# Altium schematic symbol library conics_sch_alt.SchLib: 49 symbols
Pins are listed as number, name and electrical type; pins without a type are passive.

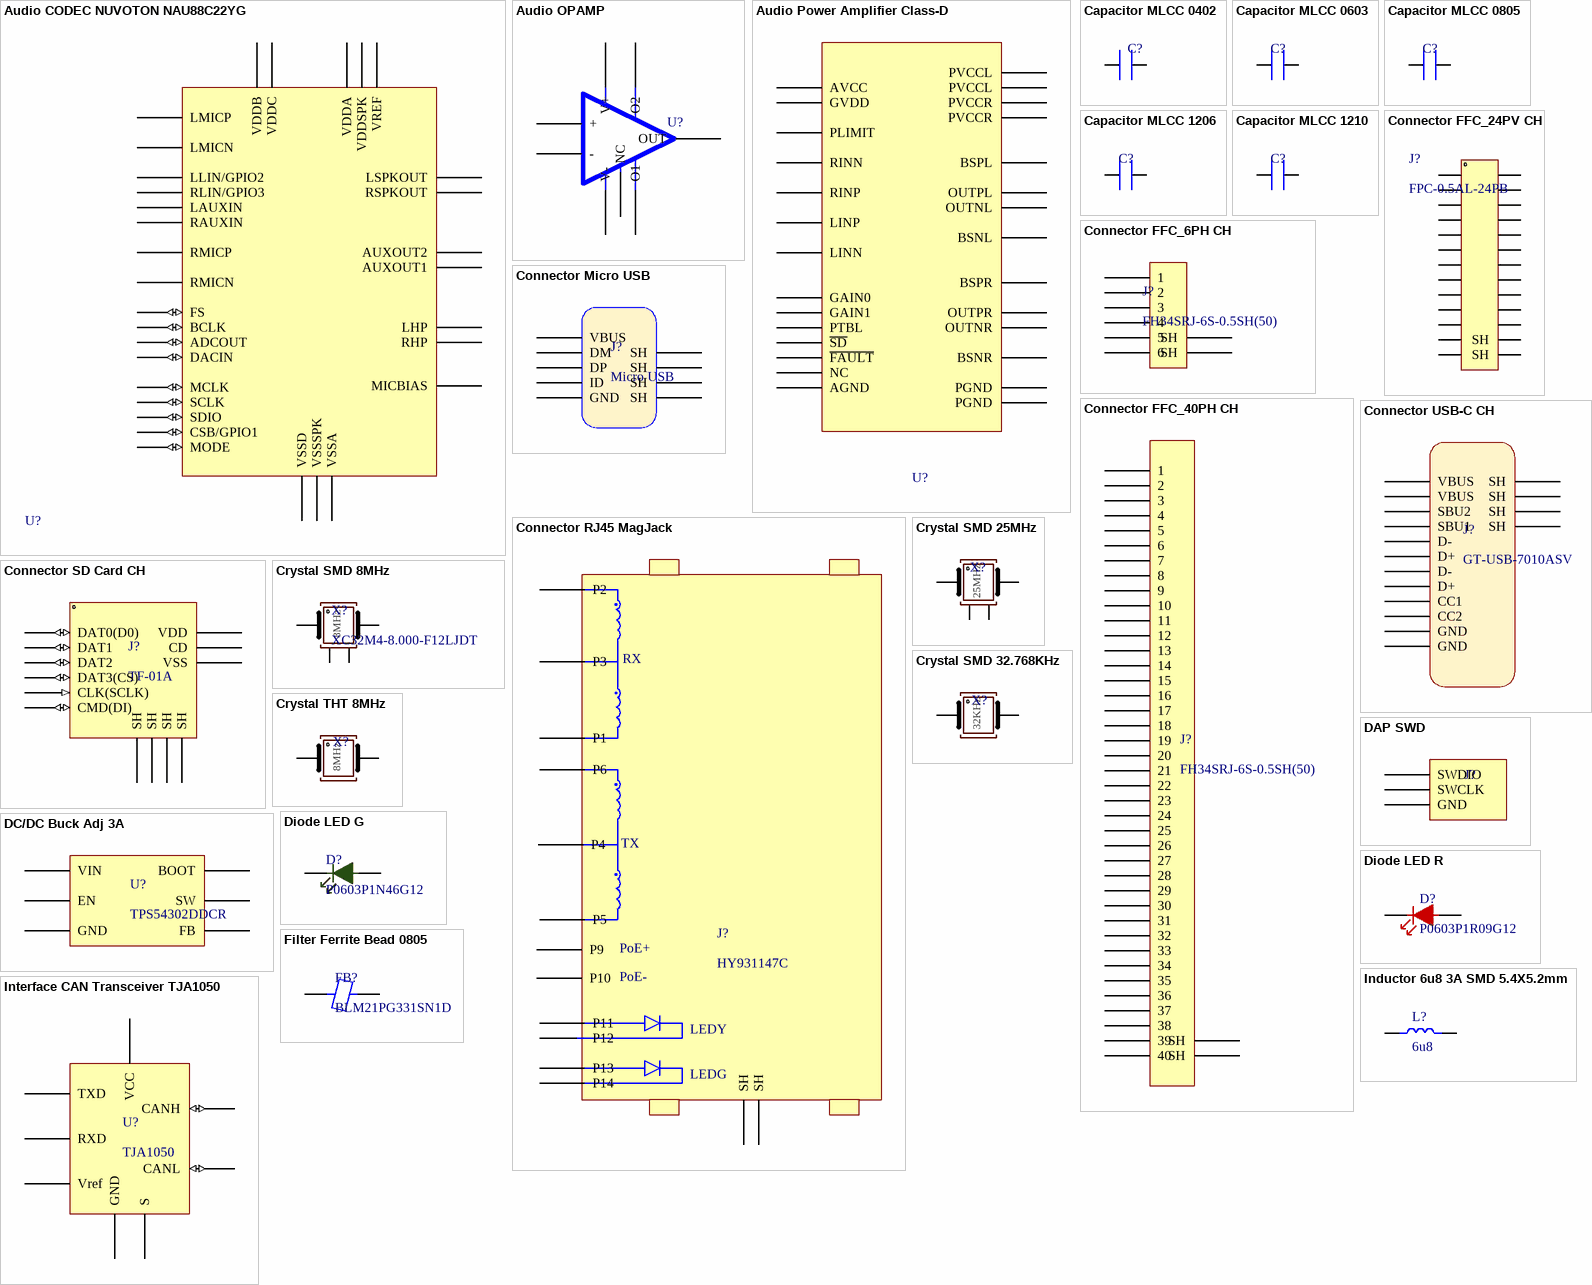
[diagram p0: symbols Audio CODEC NUVOTON NAU88C22YG to Interface CAN Transceiver TJA1050]

## Audio CODEC NUVOTON NAU88C22YG
designator U?  (value not drawn)
24-bit Stereo Audio Codec with Speaker Driver; Manufacturer 1: NUVOTON; Manufacturer Part Number 1: NAU88C22YG; Designator: U?; Quantity: *; Distributor: LCSC; LCSC Part Number: C914209; Package: QFN-32-EP(5x5); ComponentLink1Description: Product Link; ComponentLink1URL: https://www.lcsc.com/product-detail/C914209.html; ComponentLink2Description: Datasheet; ComponentLink2URL: https://www.lcsc.com/datasheet/C914209.pdf
footprint NAU88C22YG_QFN32_5x5 - duplicate
pins: 1 LMICP, 2 LMICN, 3 LLIN/GPIO2, 4 RMICP, 5 RMICN, 6 RLIN/GPIO3, 7 FS (io), 8 BCLK (io), 9 ADCOUT (io), 10 DACIN (io), 11 MCLK (io), 12 VSSD, 13 VDDC, 14 VDDB, 15 CSB/GPIO1 (io), 16 SCLK (io), 17 SDIO (io), 18 MODE (io), 19 LAUXIN, 20 RAUXIN, 21 AUXOUT1, 22 AUXOUT2, 23 RSPKOUT, 24 VSSSPK, 25 LSPKOUT, 26 VDDSPK, 27 VREF, 28 VSSA, 29 RHP, 30 LHP, 31 VDDA, 32 MICBIAS

## Audio OPAMP
designator U?  (value not drawn)
60uV 1.8nA 0.3V/us 120dB 400kHz 1 SOIC-8 Amplifiers RoHS; Manufacturer 1: TI; Manufacturer Part Number 1: OP07CDR; Designator: U?; Quantity: *; Distributor: LCSC; LCSC Part Number: C7433; Package: SOIC-8; ComponentLink1Description: Datasheet; ComponentLink1URL: https://www.lcsc.com/datasheet/C7433.pdf; ComponentLink2Description: Product Link; ComponentLink2URL: https://www.lcsc.com/product-detail/C7433.html
footprint OP07_SOIC
pins: 1 O1, 2 -, 3 +, 4 V-, 5 NC, 6 OUT, 7 V+, 8 O2

## Audio Power Amplifier Class-D
designator U?  (value not drawn)
2-Channel Class D HTSSOP-28-EP Audio Amplifiers RoHS; Manufacturer 1: TI; Manufacturer Part Number 1: TPA3110D2PWPR; Designator: U?; Quantity: *; Distributor: LCSC; LCSC Part Number: C30132; Package: HTSSOP-28-EP; ComponentLink1Description: Datasheet; ComponentLink1URL: https://www.lcsc.com/datasheet/C30132.pdf; ComponentLink2Description: Product Link; ComponentLink2URL: https://www.lcsc.com/product-detail/C30132.html
footprint TPA3110D2PWPR
pins: 1 ~{SD}, 2 ~{FAULT}, 3 LINP, 4 LINN, 5 GAIN0, 6 GAIN1, 7 AVCC, 8 AGND, 9 GVDD, 10 PLIMIT, 11 RINN, 12 RINP, 13 NC, 14 PTBL, 15 PVCCR, 16 PVCCR, 17 BSPR, 18 OUTPR, 19 PGND, 20 OUTNR, 21 BSNR, 22 BSNL, 23 OUTNL, 24 PGND, 25 OUTPL, 26 BSPL, 27 PVCCL, 28 PVCCL

## Capacitor MLCC 0402
designator C?  (value not drawn)
MURATA; Designator: C?; Manufacturer 1: mURATA; Manufacturer Part Number 1: *; Quantity: *; Distributor: LCSC; LCSC Part Number: *; Package: SMD,0402
footprint CAP_MLCC_MURATA_0402
pins: 1, 2

## Capacitor MLCC 0603
designator C?  (value not drawn)
MURATA; Designator: C?; Manufacturer 1: mURATA; Manufacturer Part Number 1: *; Quantity: *; Distributor: LCSC; LCSC Part Number: *; Package: SMD,0603
footprint CAP_MLCC_MURATA_0603
pins: 1, 2

## Capacitor MLCC 0805
designator C?  (value not drawn)
MURATA; Designator: C?; Manufacturer 1: mURATA; Manufacturer Part Number 1: *; Quantity: *; Distributor: LCSC; LCSC Part Number: *; Package: SMD, 0805
footprint CAP_MLCC_MURATA_0805
pins: 1, 2

## Capacitor MLCC 1206
designator C?  (value not drawn)
MURATA; Designator: C?; Manufacturer 1: mURATA; Manufacturer Part Number 1: *; Quantity: *; Distributor: LCSC; LCSC Part Number: *; Package: SMD, 1206
footprint CAP_MLCC_MURATA_1206
pins: 1, 2

## Capacitor MLCC 1210
designator C?  (value not drawn)
MURATA; Designator: C?; Manufacturer 1: mURATA; Manufacturer Part Number 1: *; Quantity: *; Distributor: LCSC; LCSC Part Number: *; Package: SMD, 1210
footprint CAP_MLCC_MURATA_1210
pins: 1, 2

## Connector FFC_6PH CH
designator J?, comment FH34SRJ-6S-0.5SH(50)
-55℃~+105℃ 6P 0.5mm Double-Sided Contacts, Top and Bottom Entry Surface Mount, Right Angle SMD,P=0.5mm,Surface Mount,Right Angle FFC, FPC (Flat Flexible) Connector Assemblies RoHS; Manufacturer 1: HRS; Designator: J?; Manufacturer Part Number 1: FH34SRJ-6S-0.5SH(50); Quantity: *; ComponentLink1Description: Product Link; ComponentLink1URL: https://www.lcsc.com/product-detail/C224194.html; ComponentLink2Description: Datasheet; ComponentLink2URL: https://www.lcsc.com/datasheet/C224194.pdf; Distributor: LCSC; LCSC Part Number: C224194; Package: SMD,P=0.5mm,Surface Mount,Right Angle
footprint CONN_CH_SMD_FPS_6P
pins: 1, 2, 3, 4, 5, 6, 7 SH, 8 SH

## Connector FFC_24PV CH
designator J?, comment FPC-0.5AL-24PB
Slide Lock -25℃~+85℃ 24P 0.5mm 500mA 50V Single-side Contact/Vertical Surface Mount,Vertical SMD,P=0.5mm FFC, FPC (Flat Flexible) Connector Assemblies ROHS; Manufacturer 1: XUNPU; Designator: J?; Manufacturer Part Number 1: FPC-0.5AL-24PB; Quantity: *; ComponentLink1Description: Datasheet; ComponentLink1URL: https://www.lcsc.com/datasheet/C3446051.pdf; ComponentLink2Description: Product Link; ComponentLink2URL: https://www.lcsc.com/product-detail/C3446051.html; Distributor: LCSC; LCSC Part Number: C3446051; Package: SMD,P=0.5mm
footprint CONN_CH_SMD_FPC_24P_0.5 (SMD FPC Connector 24 Pins)
pins: 1, 2, 3, 4, 5, 6, 7, 8, 9, 10, 11, 12, 13, 14, 15, 16, 17, 18, 19, 20, 21, 22, 23, 24, 25 SH, 26 SH

## Connector FFC_40PH CH
designator J?, comment FH34SRJ-6S-0.5SH(50)
-55℃~+105℃ 6P 0.5mm Double-Sided Contacts, Top and Bottom Entry Surface Mount, Right Angle SMD,P=0.5mm,Surface Mount,Right Angle FFC, FPC (Flat Flexible) Connector Assemblies RoHS; Manufacturer 1: HRS; Designator: J?; Manufacturer Part Number 1: FH34SRJ-6S-0.5SH(50); Quantity: *; ComponentLink1Description: Product Link; ComponentLink1URL: https://www.lcsc.com/product-detail/C224194.html; ComponentLink2Description: Datasheet; ComponentLink2URL: https://item.szlcsc.com/datasheet/AFC01-S40FCA-00/253933.html?lcsc_vid=QlAKU11QQVEKAwJVFVlZAVZfFgcNAwFWR1JaBVRSFAAxVlNQRVZYU1xXRVhXVjsOAxUeFF5JWBEcCEoDFhIXAgAHWQIBCks%3D; Distributor: LCSC; LCSC Part Number: C224194; Package: SMD,P=0.5mm,Surface Mount,Right Angle
footprint CONN_CH_SMD_FPC_40P
pins: 1, 2, 3, 4, 5, 6, 7, 8, 9, 10, 11, 12, 13, 14, 15, 16, 17, 18, 19, 20, 21, 22, 23, 24, 25, 26, 27, 28, 29, 30, 31, 32, 33, 34, 35, 36, 37, 38, 39, 40, 41 SH, 42 SH

## Connector Micro USB
designator J?, comment Micro USB
USB-Micro B Receptacle Connector 5 Position Surface Mount; Manufacturer 1: Jing Extension of the Electronic Co.; Manuacturer Part Number 1: 920-E52A2021S10100; Designator: J?; Quantity: *; ComponentLink1Description: Datasheet; ComponentLink1URL: https://www.lcsc.com/datasheet/C10418.pdf; ComponentLink2Description: Product Link; ComponentLink2URL: https://www.lcsc.com/product-detail/C10418.html; Distributor: LCSC; LCSC Part Number: C10418; Package: SMD
footprint CONN_MICRO_USB
pins: 1 VBUS, 2 DM, 3 DP, 4 ID, 5 GND, SH0 SH, SH1 SH, SH2 SH, SH3 SH

## Connector RJ45 MagJack
designator J?, comment HY931147C
1 With LED Through Hole Modular/Ethernet Connector Jacks With Magnetics RoHS; Manufacturer 1: HANRUN(Zhongshan HanRun Elec); Designator: J?; Manufacturer Part Number 1: HY931147C; Quantity: *; ComponentLink1Description: Product Link; ComponentLink1URL: https://www.lcsc.com/product-detail/C91754.html; ComponentLink2Description: Datasheet; ComponentLink2URL: https://item.szlcsc.com/datasheet/HY931147C/92943.html; Distributor: LCSC; LCSC Part Number: C91754; Package: THT
footprint CONN_ETH_RJ45
pins: 1 P1, 2 P2, 3 P3, 4 P4, 5 P5, 6 P6, 9 P9, 10 P10, 11 P11, 12 P12, 13 P13, 14 P14, 15 SH, 16 SH
text: RX; TX; PoE+; PoE-; LEDY; LEDG

## Connector SD Card CH
designator J?, comment TF-01A
Push-Push 1.85mm Connector and Ejector MicroSD Card (TF Card) SMD PC Card Sockets ROHS; Manufacturer 1: Korean Hroparts Elec; Designator: J?; Manufacturer Part Number 1: TF-01A; Quantity: *; ComponentLink1Description: Datasheet; ComponentLink1URL: https://www.lcsc.com/datasheet/C91145.pdf; ComponentLink2Description: Product Link; ComponentLink2URL: https://www.lcsc.com/product-detail/C91145.html; Distributor: LCSC; LCSC Part Number: C91145; Package: SMD
footprint CONN_CH_SMD_SD_CARD
pins: 1 DAT2 (io), 2 DAT3(CS) (io), 3 CMD(DI) (io), 4 VDD, 5 CLK(SCLK) (in), 6 VSS, 7 DAT0(D0) (io), 8 DAT1 (io), 9 CD, 10 SH, 11 SH, 12 SH, 13 SH

## Connector USB-C CH
designator J?, comment GT-USB-7010ASV
USB 2.0 1 16P -40℃~+85℃ Type-C SMD USB, DVI, HDMI Connector Assemblies ROHS; Manufacturer 1: G-Switch; Designator: J?; Manufacturer Part Number 1: GT-USB-7010ASV; Quantity: *; ComponentLink1Description: Datasheet; ComponentLink1URL: https://atta.szlcsc.com/upload/public/pdf/source/20230327/DF227B64686AC8FA0AD1775797F2C3F1.pdf; ComponentLink2Description: Product Link; ComponentLink2URL: https://www.lcsc.com/product-detail/C2988369.html; Distributor: LCSC; LCSC Part Number: C2988369; Package: SMD
footprint CONN_CH_USB_SMD_USB
pins: 1 VBUS, 2 VBUS, 3 SBU2, 4 CC1, 5 D-, 6 D+, 7 D-, 8 D+, 9 SBU1, 10 CC2, 11 GND, 12 GND, 13 SH, 14 SH, 15 SH, 16 SH

## Crystal SMD 8MHz
designator X?, comment XC32M4-8.000-F12LJDT
Crystal Oscillator 12pF SMD3225-4P Crystals RoHS; Manufacturer 1: HCI; Designator: X?; Manufacturer Part Number 1: XC32M4-8.000-F12LJDT; Quantity: *; ComponentLink1Description: Datasheet; ComponentLink1URL: https://www.lcsc.com/datasheet/C2842191.pdf; ComponentLink2Description: Product Link; ComponentLink2URL: https://www.lcsc.com/product-detail/C2842191.html; Distributor: LCSC; LCSC Part Number: C2842191; Package: SMD3225-4P
footprint XTAL_SMD_HCL
pins: 1, 2, 3, 4
text: 8MHz

## Crystal SMD 25MHz
designator X?, comment X322525MOB4SI  (value not drawn)
Crystal Oscillator 12pF SMD3225-4P Crystals ROHS; Manufacturer 1: YXC Crystal Oscillators; Designator: X?; Manufacturer Part Number 1: X322525MOB4SI; Quantity: *; ComponentLink1Description: Datasheet; ComponentLink1URL: https://item.szlcsc.com/datasheet/X322525MOB4SI/9526.html?lcsc_vid=T1EMVlBfE1BXVVADFQQNUlMFT1RXUAZeFlhfBlAAQVExVlNQR1lZUlNfQVJeUTsOAxUeFF5JWBEcCEoDFhIXAgAHWQIBCks%3D; ComponentLink2Description: Product Link; ComponentLink2URL: https://www.lcsc.com/product-detail/C9006.html; Distributor: LCSC; LCSC Part Number: C9006; Package: SMD3225-4P
footprint XTAL_SMD_YXC
pins: 1, 2, 3, 4
text: 25MHz

## Crystal SMD 32.768KHz
designator X?  (value not drawn)
Crystal 32.768kHz ±20ppm 12.5pF 35kΩ MC-306; Manufacturer 1: EPSON; Manufacturer Part Number 1: Q13MC30610003; Designator: X?; Quantity: *; ComponentLink1Description: Datasheet; ComponentLink1URL: https://www.lcsc.com/datasheet/C16320.pdf; ComponentLink2Description: Product Link; ComponentLink2URL: https://www.lcsc.com/product-detail/C16320.html; Distributor: LCSC; LCSC Part Number: C16320; Package: MC-306
footprint XTAL-32_768K
pins: 1, 4
text: 32KHz

## Crystal THT 8MHz
designator X?  (value not drawn)
Crystal 8MHz ±20ppm 20pF HC-49S; Manufacturer 1: YXC Crystal Oscillators; Manufacturer Part Number 1: X49SD8MSD2SC; Designator: X?; Quantity: *; ComponentLink1Description: Datasheet; ComponentLink1URL: https://www.lcsc.com/datasheet/C21263.pdf; ComponentLink2Description: Product Link; ComponentLink2URL: https://www.lcsc.com/product-detail/C21263.html; Distributor: LCSC; LCSC Part Number: C21263; Package: HC-49S
footprint XTAL_THT
pins: 1, 2
text: 8MHz

## DAP SWD
designator J?  (value not drawn)
Connector Header 3 position 1mm Pitch 1A Surface Mount,Vertical -25℃~+85℃; Manufacturer 1: JST; Manufacturer Part Number 1: BM03B-SRSS-TB(LF)(SN); Designator: J?; Quantity: *; ComponentLink1Description: Datasheet; ComponentLink1URL: https://www.lcsc.com/datasheet/C160389.pdf; ComponentLink2Description: Product Link; ComponentLink2URL: https://www.lcsc.com/product-detail/C160389.html; Distributor: LCSC; LCSC Part Number: C160389; Package: SMD,P=1mm
footprint CONN_JST_3P
pins: 1 SWDIO, 2 SWCLK, 3 GND

## DC/DC Buck Adj 3A
designator U?, comment TPS54302DDCR
400kHz Buck Adjustable 1 TSOT-23-6 Voltage Regulators - DC DC Switching Regulators RoHS; Manufacturer 1: TI; Designator: U?; Manufacturer Part Number 1: TPS54302DDCR; Quantity: *; ComponentLink1Description: Datasheet; ComponentLink1URL: https://www.lcsc.com/datasheet/C311983.pdf; ComponentLink2Description: Product Link; ComponentLink2URL: https://www.lcsc.com/product-detail/C311983.html; Distributor: LCSC; LCSC Part Number: C311983; Package: TSOT-23-6
footprint SOT95P280X110-6N (SOT23, 6-Leads, Body 2.90x2.80mm, Pitch 0.95mm, IPC Medium Density)
pins: 1 GND, 2 SW, 3 VIN, 4 FB, 5 EN, 6 BOOT

## Diode LED G
designator D?, comment P0603P1N46G12
1200mcd 518nm~524nm Green 3V 0603 LED Indication - Discrete ROHS; Manufacturer 1: Silverlight; Designator: D?; Manufacturer Part Number 1: P0603P1N46G12; Quantity: *; ComponentLink1Description: Datasheet; ComponentLink1URL: https://www.lcsc.com/datasheet/C5123548.pdf; ComponentLink2Description: Product Link; ComponentLink2URL: https://www.lcsc.com/product-detail/C5123548.html; Distributor: LCSC; LCSC Part Number: C5123548; Package: SMD, 0603
footprint LED_0603
pins: 1, 2

## Diode LED R
designator D?, comment P0603P1R09G12
20mA 350mcd 621nm Red 2V 0603 LED Indication - Discrete ROHS; Manufacturer 1: Silverlight; Designator: D?; Manufacturer Part Number 1: P0603P1R09G12; Quantity: *; ComponentLink1Description: Product Link; ComponentLink1URL: https://www.lcsc.com/product-detail/C5123549.html; ComponentLink2Description: Datasheet; ComponentLink2URL: https://www.lcsc.com/datasheet/C5123549.pdf; Distributor: LCSC; LCSC Part Number: C5123549; Package: SMD, 0603
footprint LED_0603
pins: 1, 2

## Filter Ferrite Bead 0805
designator FB?, comment BLM21PG331SN1D
70mΩ ±25% 330Ω@100MHz 0805 Ferrite Beads and Chips RoHS; Manufacturer 1: muRata; Designator: FB?; Manufacturer Part Number 1: BLM21PG331SN1D; Quantity: *; Distributor: LCSC; LCSC Part Number: C74764; Package: SMD, 0805
footprint FBEAD_0805
pins: 1, 2

## Inductor 6u8 3A SMD 5.4X5.2mm
designator L?, comment 6u8
6.8uH Molded Inductor 4A SMD,5.4x5.2mm Fixed Inductors RoHS; Manufacturer 1: cjiang; Manufacturer Part Number 1: FXL0530-6R8-M; Designator: L?; Quantity: *; ComponentLink1Description: Datasheet; ComponentLink1URL: https://www.lcsc.com/datasheet/C177249.pdf; ComponentLink2Description: Product Link; ComponentLink2URL: https://www.lcsc.com/product-detail/C177249.html; Distributor: LCSC; LCSC Part Number: C177249; Package: SMD,5.4x5.2mm
footprint INDM5452X30N (Molded Inductor, 2-Leads, Body 5.40x5.20mm, IPC Medium Density)
pins: 1, 2

## Interface CAN Transceiver TJA1050
designator U?, comment TJA1050
1Mbps 4.75V~5.25V 50mA CAN Transceiver SOP-8 CAN Transceivers ROHS; Manufacturer Part Number 1: TJA1050T/CM,118; Manufacturer 1: NXP Semicon; Designator: U?; Quantity: *; ComponentLink1Description: Product Link; ComponentLink1URL: *; ComponentLink2Description: Datasheet; ComponentLink2URL: https://www.nxp.com/docs/en/data-sheet/TJA1050.pdf; Distributor: LCSC; LCSC Part Number: C6952; Package: SOP-8
footprint TJA1050
pins: 1 TXD, 2 GND, 3 VCC, 4 RXD, 5 Vref, 6 CANL (io), 7 CANH (io), 8 S

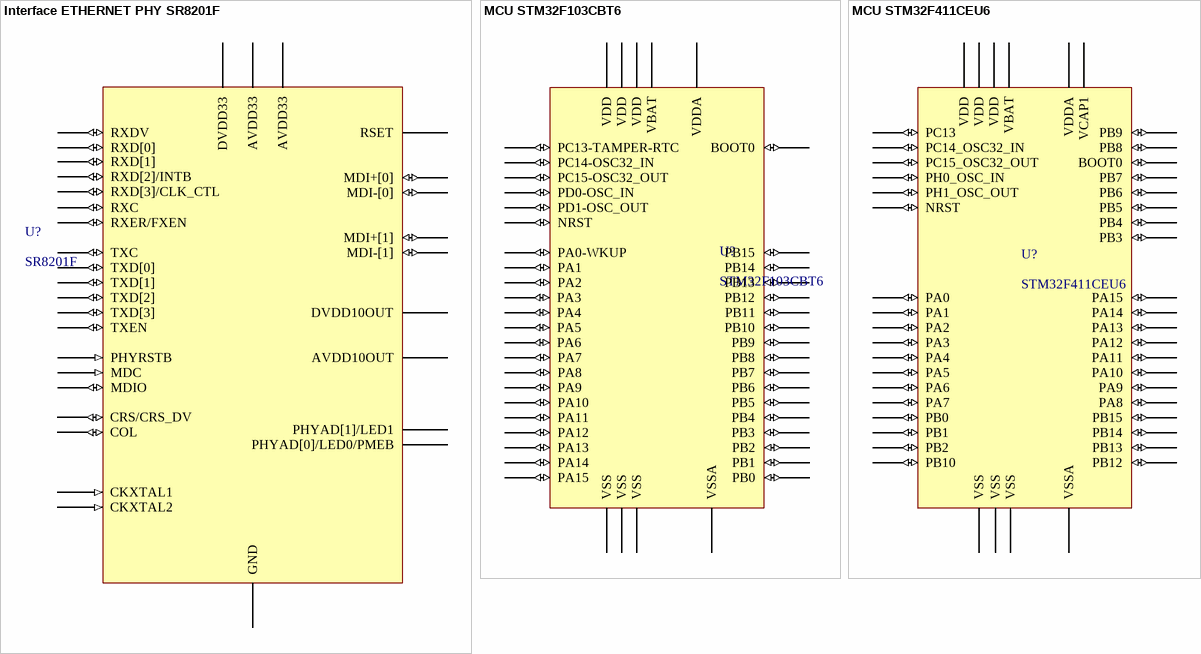
[diagram p1: symbols Interface ETHERNET PHY SR8201F to MCU STM32F411CEU6]

## Interface ETHERNET PHY SR8201F
designator U?, comment SR8201F
Single-chip 10/100M Ethernet PHYceiver, supporting Auto MDIX; Manufacturer 1: CoreChips; Designator: U?; Manufacturer Part Number 1: SR8201F; Quantity: *; ComponentLink1Description: Product Link; ComponentLink1URL: https://www.lcsc.com/product-detail/C378491.html; ComponentLink2Description: Datasheet; ComponentLink2URL: https://item.szlcsc.com/datasheet/SR8201F/351626.html; Distributor: LCSC; LCSC Part Number: C378491; Package: QFN-32-EP(5x5)
footprint SR8201F_QFN32
pins: 1 RSET, 2 AVDD10OUT, 3 MDI+[0] (io), 4 MDI-[0] (io), 5 MDI+[1] (io), 6 MDI-[1] (io), 7 AVDD33, 8 RXDV (io), 9 RXD[0] (io), 10 RXD[1] (io), 11 RXD[2]/INTB (io), 12 RXD[3]/CLK_CTL (io), 13 RXC (io), 14 DVDD33, 15 TXC (io), 16 TXD[0] (io), 17 TXD[1] (io), 18 TXD[2] (io), 19 TXD[3] (io), 20 TXEN (io), 21 PHYRSTB (in), 22 MDC (in), 23 MDIO (io), 24 PHYAD[0]/LED0/PMEB, 25 PHYAD[1]/LED1, 26 CRS/CRS_DV (io), 27 COL (io), 28 RXER/FXEN (io), 29 DVDD10OUT, 30 AVDD33, 31 CKXTAL1 (in), 32 CKXTAL2 (in), 33 GND

## MCU STM32F103CBT6
designator U?, comment STM32F103CBT6
ARM Cortex-M3 32 Bit 72MHz 37 LQFP-48(7x7) Microcontrollers RoHS; Manufacturer 1: ST; Designator: U?; Manufacturer Part Number 1: STM32F103CBT6; Quantity: *; ComponentLink1Description: Datasheet; ComponentLink1URL: https://www.lcsc.com/datasheet/C8304.pdf; ComponentLink2Description: Product Link; ComponentLink2URL: https://www.lcsc.com/product-detail/C8304.html; Distributor: LCSC; LCSC Part Number: C8304; Package: LQFP-48(7x7)
footprint STM32F103CBT6_QFP48
pins: 1 VBAT, 2 PC13-TAMPER-RTC (io), 3 PC14-OSC32_IN (io), 4 PC15-OSC32_OUT (io), 5 PD0-OSC_IN (io), 6 PD1-OSC_OUT (io), 7 NRST (io), 8 VSSA, 9 VDDA, 10 PA0-WKUP (io), 11 PA1 (io), 12 PA2 (io), 13 PA3 (io), 14 PA4 (io), 15 PA5 (io), 16 PA6 (io), 17 PA7 (io), 18 PB0 (io), 19 PB1 (io), 20 PB2 (io), 21 PB10 (io), 22 PB11 (io), 23 VSS, 24 VDD, 25 PB12 (io), 26 PB13 (io), 27 PB14 (io), 28 PB15 (io), 29 PA8 (io), 30 PA9 (io), 31 PA10 (io), 32 PA11 (io), 33 PA12 (io), 34 PA13 (io), 35 VSS, 36 VDD, 37 PA14 (io), 38 PA15 (io), 39 PB3 (io), 40 PB4 (io), 41 PB5 (io), 42 PB6 (io), 43 PB7 (io), 44 BOOT0 (io), 45 PB8 (io), 46 PB9 (io), 47 VSS, 48 VDD

## MCU STM32F411CEU6
designator U?, comment STM32F411CEU6
ARM Cortex-M4 32 Bit 100MHz 36 UFQFPN-48(7x7) Microcontrollers RoHS; Manufacturer 1: ST; Designator: U?; Manufacturer Part Number 1: STM32F411CEU6; Quantity: *; ComponentLink1Description: Datasheet; ComponentLink1URL: https://www.lcsc.com/datasheet/C60420.pdf; ComponentLink2Description: Product Link; ComponentLink2URL: https://www.lcsc.com/product-detail/C60420.html; Distributor: LCSC; LCSC Part Number: C60420; Package: UFQFPN-48(7x7)
footprint STM32F411CEU6_QFPN48
pins: 1 VBAT, 2 PC13 (io), 3 PC14_OSC32_IN (io), 4 PC15_OSC32_OUT (io), 5 PH0_OSC_IN (io), 6 PH1_OSC_OUT (io), 7 NRST (io), 8 VSSA, 9 VDDA, 10 PA0 (io), 11 PA1 (io), 12 PA2 (io), 13 PA3 (io), 14 PA4 (io), 15 PA5 (io), 16 PA6 (io), 17 PA7 (io), 18 PB0 (io), 19 PB1 (io), 20 PB2 (io), 21 PB10 (io), 22 VCAP1, 23 VSS, 24 VDD, 25 PB12 (io), 26 PB13 (io), 27 PB14 (io), 28 PB15 (io), 29 PA8 (io), 30 PA9 (io), 31 PA10 (io), 32 PA11 (io), 33 PA12 (io), 34 PA13 (io), 35 VSS, 36 VDD, 37 PA14 (io), 38 PA15 (io), 39 PB3 (io), 40 PB4 (io), 41 PB5 (io), 42 PB6 (io), 43 PB7 (io), 44 BOOT0 (io), 45 PB8 (io), 46 PB9 (io), 47 VSS, 48 VDD

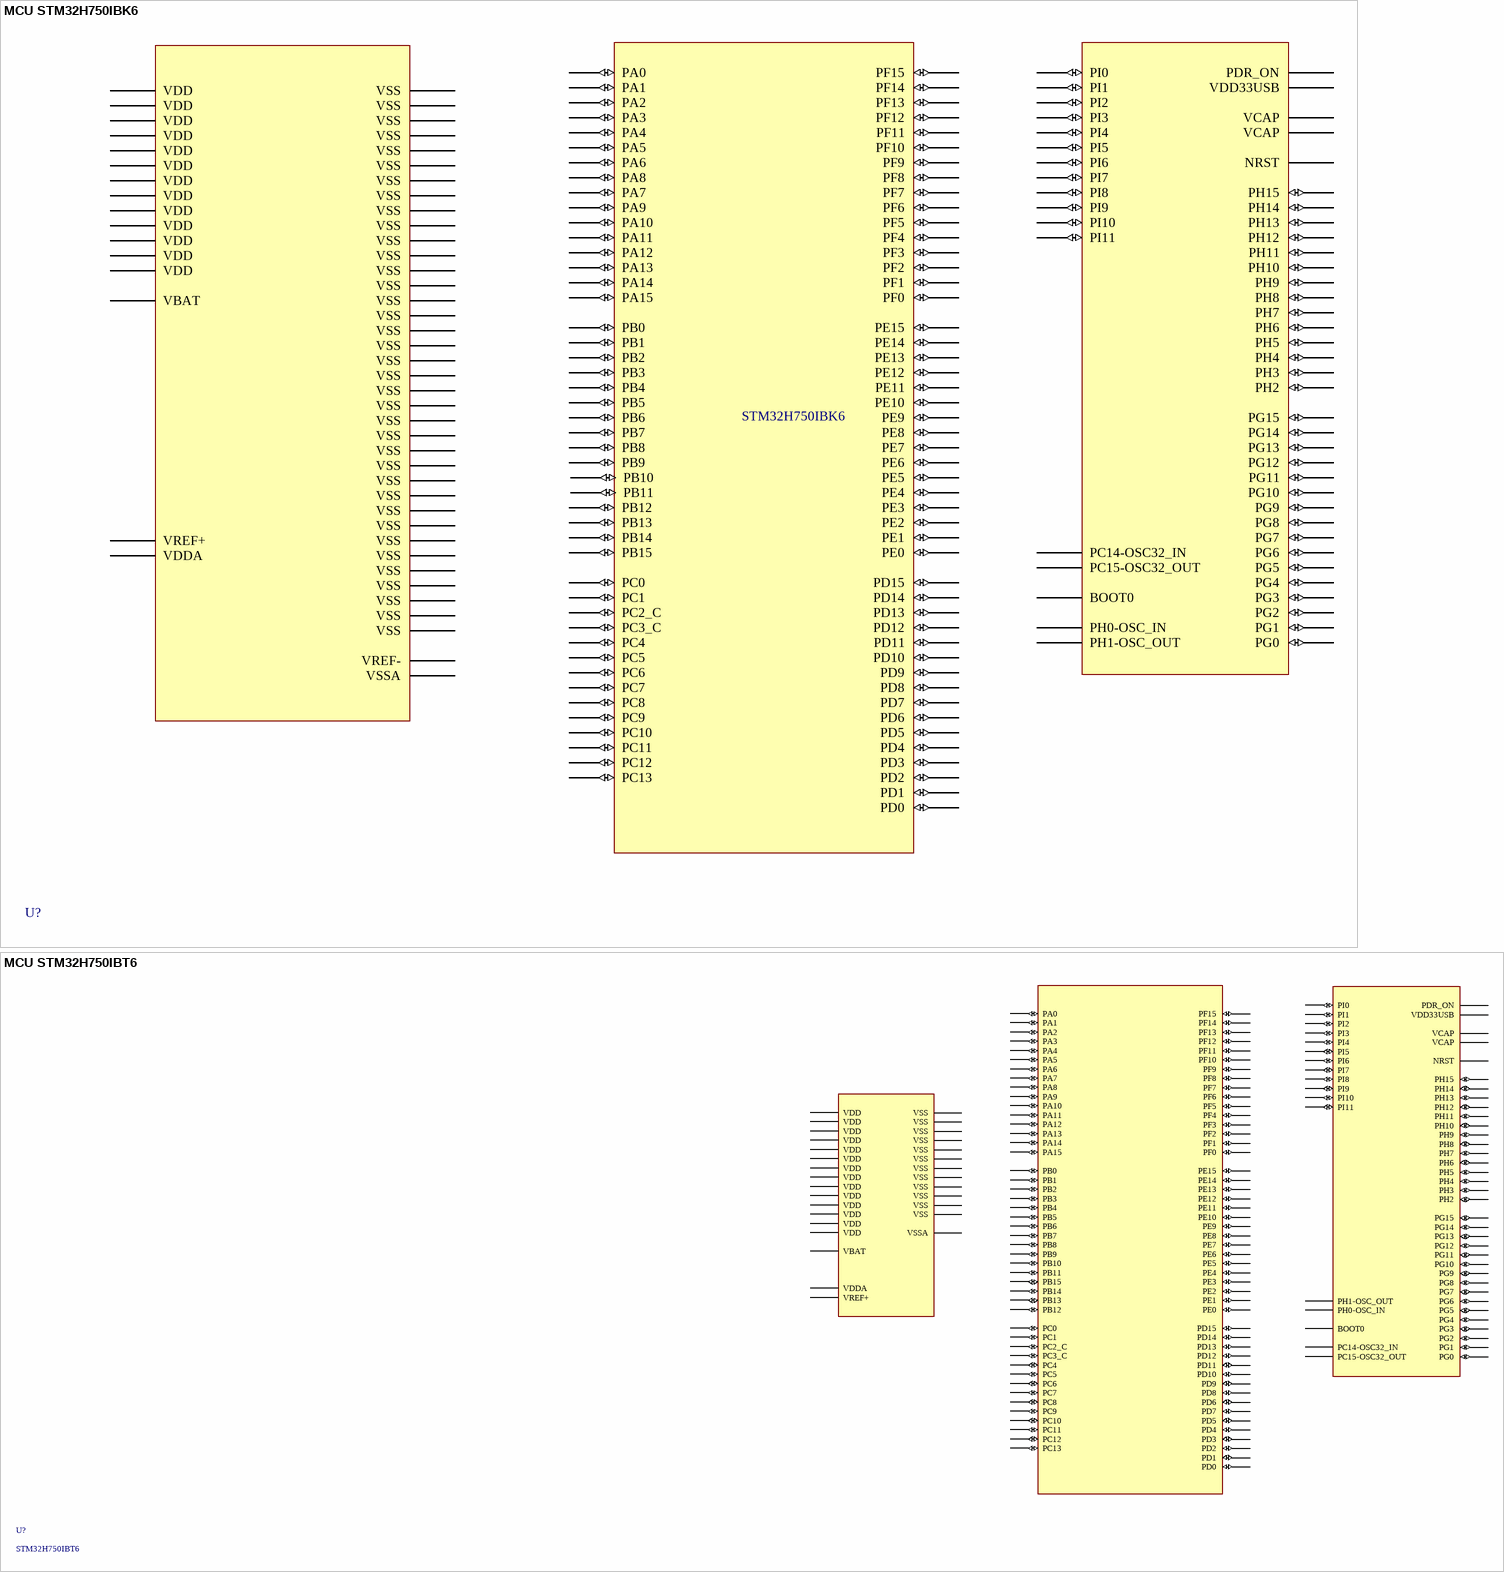
[diagram p2: symbols MCU STM32H750IBK6 to MCU STM32H750IBT6]

## MCU STM32H750IBK6
designator U?, comment STM32H750IBK6
ARM Cortex-M7 32 Bit 480MHz 140 UFBGA-201 Microcontrollers RoHS; Manufacturer 1: ST; ComponentLink1Description: Product Link; ComponentLink1URL: https://www.lcsc.com/product-detail/C730200.html; ComponentLink2Description: Datasheet; ComponentLink2URL: https://www.lcsc.com/datasheet/C730200.pdf; Package: UFBGA-201; LCSC Part Number: C730200; Distributor: LCSC; Quantity: *; Manufacturer Part Number 1: STM32H750IBK6
footprint STM32H750IBK6_BGA201 (BGA, 201-Leads, Body 10.00x10.00mmx0.60mm, Pitch 0.65mm)
pins: A1 PE3 (io), A2 PE2 (io), A3 PE1 (io), A4 PE0 (io), A5 PB8 (io), A6 PB5 (io), A7 PG14 (io), A8 PG13 (io), A9 PB4 (io), A10 PB3 (io), A11 PD7 (io), A12 PC12 (io), A13 PA15 (io), A14 PA14 (io), A15 PA13 (io), B1 PE4 (io), B2 PE5 (io), B3 PE6 (io), B4 PB9 (io), B5 PB7 (io), B6 PB6 (io), B7 PG15 (io), B8 PG12 (io), B9 PG11 (io), B10 PG10 (io), B11 PD6 (io), B12 PD0 (io), B13 PC11 (io), B14 PC10 (io), B15 PA12 (io), C1 VBAT, C2 PI7 (io), C3 PI6 (io), C4 PI5 (io), C5 VDD, C6 PDR_ON, C7 VDD, C8 VDD, C9 VDD, C10 PG9 (io), C11 PD5 (io), C12 PD1 (io), C13 PI3 (io), C14 PI2 (io), C15 PA11 (io), D1 PC13 (io), D2 PI8 (io), D3 PI9 (io), D4 PI4 (io), D5 VSS, D6 BOOT0, D7 VSS, D8 VSS, D9 VSS, D10 PD4 (io), D11 PD3 (io), D12 PD2 (io), D13 PH15 (io), D14 PI1 (io), D15 PA10 (io), E1 PC14-OSC32_IN, E2 PF0 (io), E3 PI10 (io), E4 PI11 (io), E12 PH13 (io), E13 PH14 (io), E14 PI0 (io), E15 PA9 (io), F1 PC15-OSC32_OUT, F2 VSS, F3 VDD, F4 PH2 (io), F6 VSS, F7 VSS, F8 VSS, F9 VSS, F10 VSS, F12 VSS, F13 VCAP, F14 PC9 (io), F15 PA8 (io), G1 PH0-OSC_IN, G2 VSS, G3 VDD, G4 PH3 (io), G6 VSS, G7 VSS, G8 VSS, G9 VSS, G10 VSS, G12 VSS, G13 VDD, G14 PC8 (io), G15 PC7 (io), H1 PH1-OSC_OUT, H2 PF2 (io), H3 PF1 (io), H4 PH4 (io), H6 VSS, H7 VSS, H8 VSS, H9 VSS, H10 VSS, H12 VSS, H13 VDD33USB, H14 PG8 (io), H15 PC6 (io), J1 NRST, J2 PF3 (io), J3 PF4 (io), J4 PH5 (io), J6 VSS, J7 VSS, J8 VSS, J9 VSS, J10 VSS, J12 VDD, J13 VDD, J14 PG7 (io), J15 PG6 (io), K1 PF7 (io), K2 PF6 (io), K3 PF5 (io), K4 VDD, K6 VSS, K7 VSS, K8 VSS, K9 VSS, K10 VSS, K12 PH12 (io), K13 PG5 (io), K14 PG4 (io), K15 PG3 (io), L1 PF10 (io), L2 PF9 (io), L3 PF8 (io), L4 VSS, L12 PH11 (io), L13 PH10 (io), L14 PD15 (io), L15 PG2 (io), M1 VSSA, M2 PC0 (io), M3 PC1 (io), M4 PC2_C (io), M5 PC3_C (io), M6 PB2 (io), M7 PG1 (io), M8 VSS, M9 VSS, M10 VCAP, M11 PH6 (io), M12 PH8 (io), M13 PH9 (io), M14 PD14 (io), M15 PD13 (io), N1 VREF-, N2 PA1 (io), N3 PA0 (io), N4 PA4 (io), N5 PC4 (io), N6 PF13 (io), N7 PG0 (io), N8 VDD, N9 VDD, N10 VDD, N11 PE13 (io), N12 PH7 (io), N13 PD12 (io), N14 PD11 (io), N15 PD10 (io), P1 VREF+, P2 PA2 (io), P3 PA6 (io), P4 PA5 (io), P5 PC5 (io), P6 PF12 (io), P7 PF15 (io), P8 PE8 (io), P9 PE9 (io), P10 PE11 (io), P11 PE14 (io), P12 PB12 (io), P13 PB13 (io), P14 PD9 (io), P15 PD8 (io), R1 VDDA, R2 PA3 (io), R3 PA7 (io), R4 PB1 (io), R5 PB0 (io), R6 PF11 (io), R7 PF14 (io), R8 PE7 (io), R9 PE10 (io), R10 PE12 (io), R11 PE15 (io), R12 PB10 (io), R13 PB11 (io), R14 PB14 (io), R15 PB15 (io)

## MCU STM32H750IBT6
designator U?, comment STM32H750IBT6
ARM Cortex-M7 Series 480MHz 140 LQFP-176(24x24) Microcontrollers RoHS; Manufacturer 1: ST; Manufacturer Part Number 1: ST STM32H750IBT6; Designator: U?; Quantity: *; ComponentLink1Description: Product Link; ComponentLink1URL: https://www.lcsc.com/product-detail/C730201.html; ComponentLink2Description: Datasheet; ComponentLink2URL: https://www.lcsc.com/datasheet/C730201.pdf; Distributor: LCSC; LCSC Part Number: C730201; Package: LQFP-176(24x24)
footprint STM32H750IBT6_176QFP
pins: 1 PE2 (io), 2 PE3 (io), 3 PE4 (io), 4 PE5 (io), 5 PE6 (io), 6 VBAT, 7 PI8 (io), 8 PC13 (io), 9 PC14-OSC32_IN, 10 PC15-OSC32_OUT, 11 PI9 (io), 12 PI10 (io), 13 PI11 (io), 14 VSS, 15 VDD, 16 PF0 (io), 17 PF1 (io), 18 PF2 (io), 19 PF3 (io), 20 PF4 (io), 21 PF5 (io), 22 VSS, 23 VDD, 24 PF6 (io), 25 PF7 (io), 26 PF8 (io), 27 PF9 (io), 28 PF10 (io), 29 PH0-OSC_IN, 30 PH1-OSC_OUT, 31 NRST, 32 PC0 (io), 33 PC1 (io), 34 PC2_C (io), 35 PC3_C (io), 36 VDD, 37 VSSA, 38 VREF+, 39 VDDA, 40 PA0 (io), 41 PA1 (io), 42 PA2 (io), 43 PH2 (io), 44 PH3 (io), 45 PH4 (io), 46 PH5 (io), 47 PA3 (io), 48 VSS, 49 VDD, 50 PA4 (io), 51 PA5 (io), 52 PA6 (io), 53 PA7 (io), 54 PC4 (io), 55 PC5 (io), 56 PB0 (io), 57 PB1 (io), 58 PB2 (io), 59 PF11 (io), 60 PF12 (io), 61 VSS, 62 VDD, 63 PF13 (io), 64 PF14 (io), 65 PF15 (io), 66 PG0 (io), 67 PG1 (io), 68 PE7 (io), 69 PE8 (io), 70 PE9 (io), 71 VSS, 72 VDD, 73 PE10 (io), 74 PE11 (io), 75 PE12 (io), 76 PE13 (io), 77 PE14 (io), 78 PE15 (io), 79 PB10 (io), 80 PB11 (io), 81 VCAP, 82 VDD, 83 PH6 (io), 84 PH7 (io), 85 PH8 (io), 86 PH9 (io), 87 PH10 (io), 88 PH11 (io), 89 PH12 (io), 90 VSS, 91 VDD, 92 PB12 (io), 93 PB13 (io), 94 PB14 (io), 95 PB15 (io), 96 PD8 (io), 97 PD9 (io), 98 PD10 (io), 99 PD11 (io), 100 PD12 (io), 101 PD13 (io), 102 VSS, 103 VDD, 104 PD14 (io), 105 PD15 (io), 106 PG2 (io), 107 PG3 (io), 108 PG4 (io), 109 PG5 (io), 110 PG6 (io), 111 PG7 (io), 112 PG8 (io), 113 VSS, 114 VDD33USB, 115 PC6 (io), 116 PC7 (io), 117 PC8 (io), 118 PC9 (io), 119 PA8 (io), 120 PA9 (io), 121 PA10 (io), 122 PA11 (io), 123 PA12 (io), 124 PA13 (io), 125 VCAP, 126 VSS, 127 VDD, 128 PH13 (io), 129 PH14 (io), 130 PH15 (io), 131 PI0 (io), 132 PI1 (io), 133 PI2 (io), 134 PI3 (io), 135 VSS, 136 VDD, 137 PA14 (io), 138 PA15 (io), 139 PC10 (io), 140 PC11 (io), 141 PC12 (io), 142 PD0 (io), 143 PD1 (io), 144 PD2 (io), 145 PD3 (io), 146 PD4 (io), 147 PD5 (io), 148 VSS, 149 VDD, 150 PD6 (io), 151 PD7 (io), 152 PG9 (io), 153 PG10 (io), 154 PG11 (io), 155 PG12 (io), 156 PG13 (io), 157 PG14 (io), 158 VSS, 159 VDD, 160 PG15 (io), 161 PB3 (io), 162 PB4 (io), 163 PB5 (io), 164 PB6 (io), 165 PB7 (io), 166 BOOT0, 167 PB8 (io), 168 PB9 (io), 169 PE0 (io), 170 PE1 (io), 171 PDR_ON, 172 VDD, 173 PI4 (io), 174 PI5 (io), 175 PI6 (io), 176 PI7 (io)

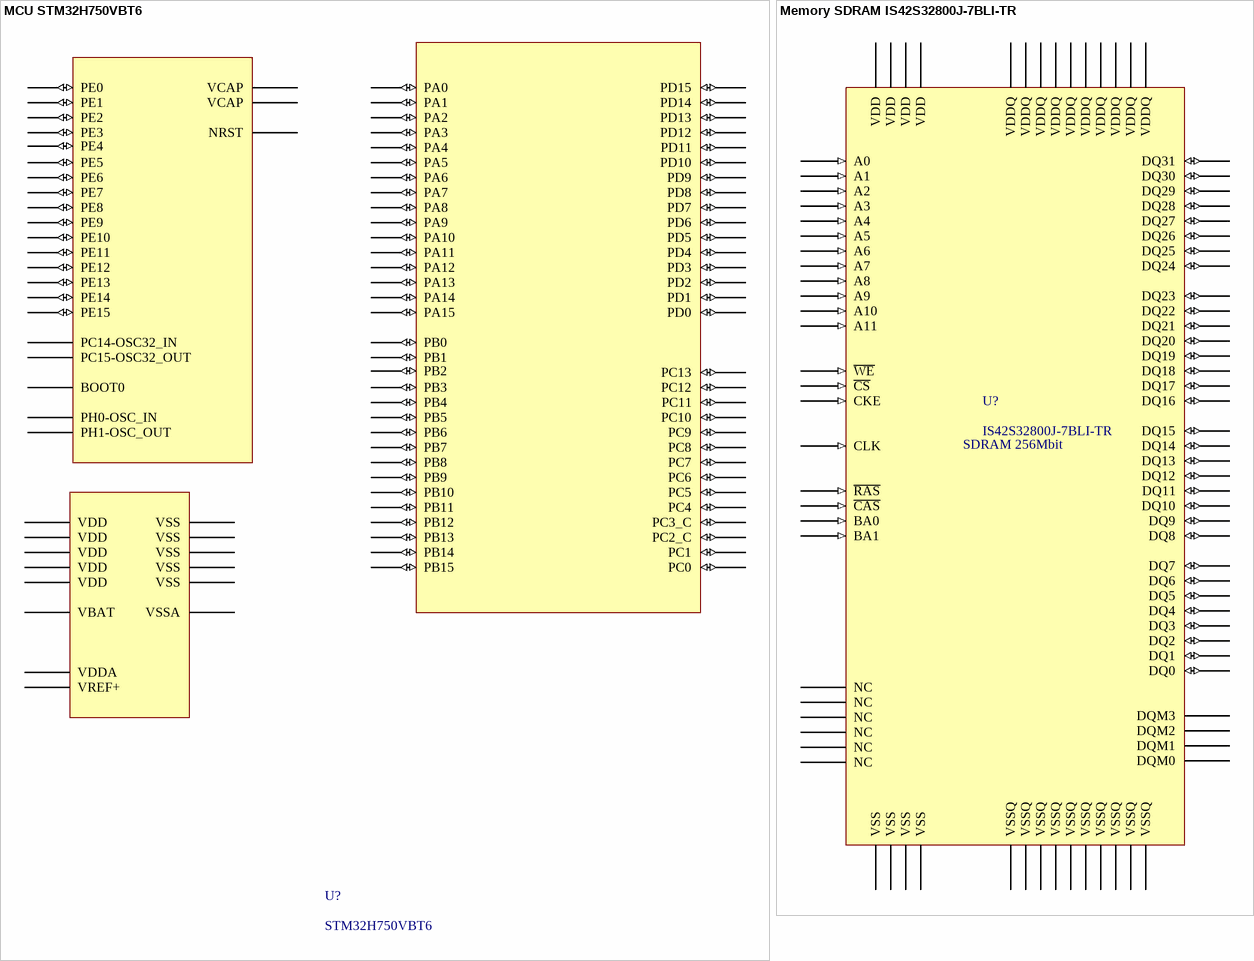
[diagram p3: symbols MCU STM32H750VBT6 to Memory SDRAM IS42S32800J-7BLI-TR]

## MCU STM32H750VBT6
designator U?, comment STM32H750VBT6
ARM Cortex-M7 Series 480MHz 82 LQFP-100(14x14) Microcontrollers ROHS; Manufacturer 1: ST; Designator: U?; Manufacturer Part Number 1: STM32H750VBT6; Quantity: *; ComponentLink1Description: Datasheet; ComponentLink1URL: https://www.lcsc.com/datasheet/C404010.pdf; ComponentLink2Description: Product Link; ComponentLink2URL: https://www.lcsc.com/product-detail/C404010.html; Distributor: LCSC; LCSC Part Number: C404010; Package: LQFP-100(14x14)
footprint STM32H750VBT6_LQFP100
pins: 1 PE2 (io), 2 PE3 (io), 3 PE4 (io), 4 PE5 (io), 5 PE6 (io), 6 VBAT, 7 PC13 (io), 8 PC14-OSC32_IN, 9 PC15-OSC32_OUT, 10 VSS, 11 VDD, 12 PH0-OSC_IN, 13 PH1-OSC_OUT, 14 NRST, 15 PC0 (io), 16 PC1 (io), 17 PC2_C (io), 18 PC3_C (io), 19 VSSA, 20 VREF+, 21 VDDA, 22 PA0 (io), 23 PA1 (io), 24 PA2 (io), 25 PA3 (io), 26 VSS, 27 VDD, 28 PA4 (io), 29 PA5 (io), 30 PA6 (io), 31 PA7 (io), 32 PC4 (io), 33 PC5 (io), 34 PB0 (io), 35 PB1 (io), 36 PB2 (io), 37 PE7 (io), 38 PE8 (io), 39 PE9 (io), 40 PE10 (io), 41 PE11 (io), 42 PE12 (io), 43 PE13 (io), 44 PE14 (io), 45 PE15 (io), 46 PB10 (io), 47 PB11 (io), 48 VCAP, 49 VSS, 50 VDD, 51 PB12 (io), 52 PB13 (io), 53 PB14 (io), 54 PB15 (io), 55 PD8 (io), 56 PD9 (io), 57 PD10 (io), 58 PD11 (io), 59 PD12 (io), 60 PD13 (io), 61 PD14 (io), 62 PD15 (io), 63 PC6 (io), 64 PC7 (io), 65 PC8 (io), 66 PC9 (io), 67 PA8 (io), 68 PA9 (io), 69 PA10 (io), 70 PA11 (io), 71 PA12 (io), 72 PA13 (io), 73 VCAP, 74 VSS, 75 VDD, 76 PA14 (io), 77 PA15 (io), 78 PC10 (io), 79 PC11 (io), 80 PC12 (io), 81 PD0 (io), 82 PD1 (io), 83 PD2 (io), 84 PD3 (io), 85 PD4 (io), 86 PD5 (io), 87 PD6 (io), 88 PD7 (io), 89 PB3 (io), 90 PB4 (io), 91 PB5 (io), 92 PB6 (io), 93 PB7 (io), 94 BOOT0, 95 PB8 (io), 96 PB9 (io), 97 PE0 (io), 98 PE1 (io), 99 VSS, 100 VDD

## Memory SDRAM IS42S32800J-7BLI-TR
designator U?, comment IS42S32800J-7BLI-TR
256Mbit Synchronous DRAM; Manufacturer 1: ISSI; Designator: U?; Manufacturer Part Number 1: IS42S32800J-7BLI-TR; Quantity: *; ComponentLink1Description: Product Link; ComponentLink1URL: https://www.lcsc.com/product-detail/C2065206.html; ComponentLink2Description: Datasheet; ComponentLink2URL: https://www.lcsc.com/datasheet/C2065206.pdf; Distributor: LCSC; LCSC Part Number: C2065206; Package: TFBGA-90(8x13)
footprint IS42S32800J-7BLI-TR_BGA
pins: A1 DQ26 (io), A2 DQ24 (io), A3 VSS, A7 VDD, A8 DQ23 (io), A9 DQ21 (io), B1 DQ28 (io), B2 VDDQ, B3 VSSQ, B7 VDDQ, B8 VSSQ, B9 DQ19 (io), C1 VSSQ, C2 DQ27 (io), C3 DQ25 (io), C7 DQ22 (io), C8 DQ20 (io), C9 VDDQ, D1 VSSQ, D2 DQ29 (io), D3 DQ30 (io), D7 DQ17 (io), D8 DQ18 (io), D9 VDDQ, E1 VDDQ, E2 DQ31 (io), E3 NC, E7 NC, E8 DQ16 (io), E9 VSSQ, F1 VSS, F2 DQM3, F3 A3 (in), F7 A2 (in), F8 DQM2, F9 VDD, G1 A4 (in), G2 A5 (in), G3 A6 (in), G7 A10 (in), G8 A0 (in), G9 A1 (in), H1 A7 (in), H2 A8 (in), H3 NC, H7 NC, H8 BA1 (in), H9 A11 (in), J1 CLK (in), J2 CKE (in), J3 A9 (in), J7 BA0 (in), J8 ~{CS} (in), J9 ~{RAS} (in), K1 DQM1, K2 NC, K3 NC, K7 ~{CAS} (in), K8 ~{WE} (in), K9 DQM0, L1 VDDQ, L2 DQ8 (io), L3 VSS, L7 VDD, L8 DQ7 (io), L9 VSSQ, M1 VSSQ, M2 DQ10 (io), M3 DQ9 (io), M7 DQ6 (io), M8 DQ5 (io), M9 VDDQ, N1 VSSQ, N2 DQ12 (io), N3 DQ14 (io), N7 DQ1 (io), N8 DQ3 (io), N9 VDDQ, P1 DQ11 (io), P2 VDDQ, P3 VSSQ, P7 VDDQ, P8 VSSQ, P9 DQ4 (io), R1 DQ13 (io), R2 DQ15 (io), R3 VSS, R7 VDD, R8 DQ0 (io), R9 DQ2 (io)
text: SDRAM 256Mbit

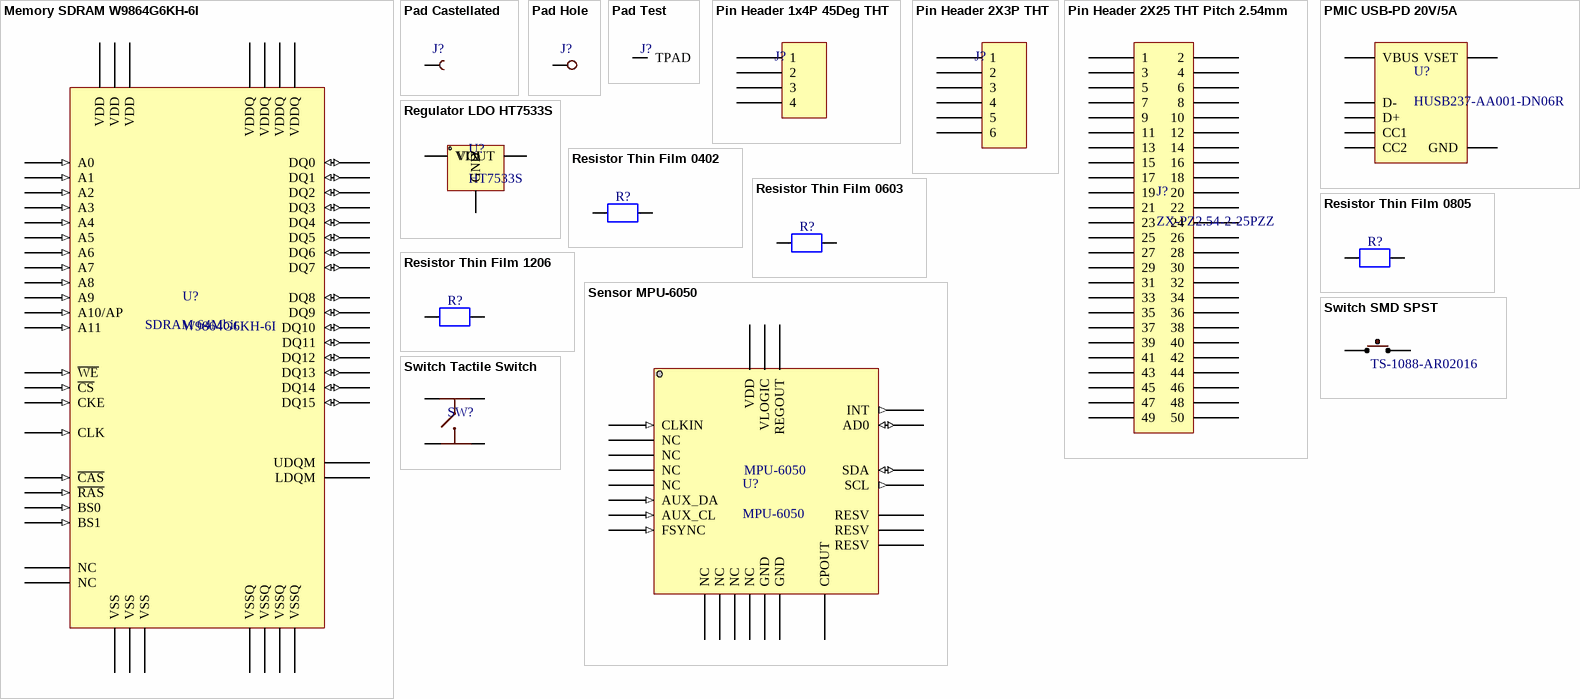
[diagram p4: symbols Memory SDRAM W9864G6KH-6I to Switch Tactile Switch]

## Memory SDRAM W9864G6KH-6I
designator U?, comment W9864G6KH-6I
64Mbit 3V~3.6V 166MHz TSOP-54-10.2mm Memory (ICs) RoHS; Manufacturer 1: Winbond; Designator: U?; Quantity: *; Manufacturer Part Number 1: W9864G6KH-6I; ComponentLink1Description: Datasheet; ComponentLink1URL: https://www.lcsc.com/datasheet/C503937.pdf; ComponentLink2Description: Product Link; ComponentLink2URL: https://www.lcsc.com/product-detail/C503937.html; Distributor: LCSC; LCSC Part Number: C503937; Package: TSOP-54-10.2mm
footprint W9864G6KH-6I-TSOP54 (TSOP, 54-Leads, Body 22.22x10.16mm, Pitch 0.80mm, IPC Medium Density)
pins: 1 VDD, 2 DQ0 (io), 3 VDDQ, 4 DQ1 (io), 5 DQ2 (io), 6 VSSQ, 7 DQ3 (io), 8 DQ4 (io), 9 VDDQ, 10 DQ5 (io), 11 DQ6 (io), 12 VSSQ, 13 DQ7 (io), 14 VDD, 15 LDQM, 16 ~{WE} (in), 17 ~{CAS} (in), 18 ~{RAS} (in), 19 ~{CS} (in), 20 BS0 (in), 21 BS1 (in), 22 A10/AP (in), 23 A0 (in), 24 A1 (in), 25 A2 (in), 26 A3 (in), 27 VDD, 28 VSS, 29 A4 (in), 30 A5 (in), 31 A6 (in), 32 A7 (in), 33 A8 (in), 34 A9 (in), 35 A11 (in), 36 NC, 37 CKE (in), 38 CLK (in), 39 UDQM, 40 NC, 41 VSS, 42 DQ8 (io), 43 VDDQ, 44 DQ9 (io), 45 DQ10 (io), 46 VSSQ, 47 DQ11 (io), 48 DQ12 (io), 49 VDDQ, 50 DQ13 (io), 51 DQ14 (io), 52 VSSQ, 53 DQ15 (io), 54 VSS
text: SDRAM 64Mbit

## Pad Castellated
designator J?
footprint CPad
pins: 1

## Pad Hole
designator J?  (value not drawn)
footprint HOLE
pins: 1

## Pad Test
designator J?  (no BOM)
footprint TPAD
pins: 1 TPAD

## Pin Header 1x4P 45Deg THT
designator J?  (value not drawn)
Pin Header 4 Position 2.54mm Pitch Single Row Through Hole, Right Angle -40℃~+105℃; Manufacturer 1: XFCN; Manufacturer Part Number 1: PZ254R-11-04P; Designator: J?; Quantity: *; ComponentLink1Description: Datasheet; ComponentLink1URL: https://www.lcsc.com/datasheet/C492412.pdf; ComponentLink2Description: Product Link; ComponentLink2URL: https://www.lcsc.com/product-detail/C492412.html; Distributor: LCSC; LCSC Part Number: C492412; Package: THT,Right Angle,P=2.54mm
footprint 1X4P_45DEG
pins: 1, 2, 3, 4

## Pin Header 2X3P THT
designator J?  (value not drawn)
Pin Header 6 Position 2.54mm Pitch Dual Row Through Hole -40℃~+105℃; Manufacturer 1: Megastar; Manufacturer Part Number 1: ZX-PZ2.54-2-3PZZ; Designator: J?; Quantity: *; ComponentLink1Description: Datasheet; ComponentLink1URL: https://www.lcsc.com/datasheet/C7501274.pdf; ComponentLink2Description: Product Link; ComponentLink2URL: https://www.lcsc.com/product-detail/C7501274.html; Distributor: LCSC; LCSC Part Number: C7501274; Package: THT,P=2.54mm
footprint 2x3P_100mil
pins: 1, 2, 3, 4, 5, 6

## Pin Header 2X25 THT Pitch 2.54mm
designator J?, comment ZX-PZ2.54-2-25PZZ
2x25P 50P Gold Brass -40℃~+105℃ Pin Header Black 2.54mm 2.5mm 6mm 1kV 3mm 3A 2 Through Hole 2.54mm Through Hole,P=2.54mm Headers, Male Pins RoHS; Manufacturer 1: Megastar; Designator: J?; Manufacturer Part Number 1: ZX-PZ2.54-2-25PZZ; Quantity: *; ComponentLink1Description: Product Link; ComponentLink1URL: https://www.lcsc.com/product-detail/C7501284.html; ComponentLink2Description: Datasheet; ComponentLink2URL: https://www.lcsc.com/datasheet/C7501284.pdf; Distributor: LCSC; LCSC Part Number: C7501284; Package: THT,P=2.54mm
footprint PIN_HEADER_2X25P
pins: 1, 2, 3, 4, 5, 6, 7, 8, 9, 10, 11, 12, 13, 14, 15, 16, 17, 18, 19, 20, 21, 22, 23, 24, 25, 26, 27, 28, 29, 30, 31, 32, 33, 34, 35, 36, 37, 38, 39, 40, 41, 42, 43, 44, 45, 46, 47, 48, 49, 50

## PMIC USB-PD 20V/5A
designator U?, comment HUSB237-AA001-DN06R
Power Receiver Controller 100W DFN-6L-EP(2x2) Power Management - Specialized RoHS; Manufacturer 1: Hynetek; Designator: U?; Manufacturer Part Number 1: HUSB237-AA001-DN06R; Quantity: *; ComponentLink1Description: Datasheet; ComponentLink1URL: https://www.lcsc.com/datasheet/C22373734.pdf; ComponentLink2Description: Product Link; ComponentLink2URL: https://www.lcsc.com/product-detail/C22373734.html; Distributor: LCSC; LCSC Part Number: C7501284; Package: THT,P=2.54mm
footprint USB_PD_DFN6
pins: 1 CC1, 2 VBUS, 3 VSET, 4 D+, 5 D-, 6 CC2, 7 GND

## Regulator LDO HT7533S
designator U?, comment HT7533S
Linear Voltage Regulator IC Positive Fixed 1 Output 100mA SOT-23; Manufacturer 1: UMW; Designator: U?; Manufacturer Part Number 1: HT7533S; ComponentLink1Description: Product Link; ComponentLink1URL: https://www.lcsc.com/product-detail/C347215.html; ComponentLink2Description: Datasheet; ComponentLink2URL: https://www.lcsc.com/datasheet/C347215.pdf; Distributor: LCSC; LCSC Part Number: C347215; Package: SOT-23
footprint HT7533S_SOT23 (SOT23, 3-Leads, Body 2.90x2.40mm, Pitch 0.95mm, IPC Medium Density)
pins: 1 GND, 2 VIN, 3 VOUT

## Resistor Thin Film 0402
designator R?  (value not drawn)
YAGEO; Manufacturer 1: YAGEO; Manufacturer Part Number 1: *; Designator: *; Quantity: *; Distributor: LCSC; LCSC Part Number: *; Package: SMD, 0402
footprint RES_THIN_FILM_0402_YAGEO
pins: 1, 2

## Resistor Thin Film 0603
designator R?  (value not drawn)
YAGEO; Manufacturer 1: YAGEO; Manufacturer Part Number 1: *; Designator: *; Quantity: *; Distributor: LCSC; LCSC Part Number: *; Package: SMD, 0603
footprint RES_THIN_FILM_0603_YAGEO
pins: 1, 2

## Resistor Thin Film 0805
designator R?  (value not drawn)
YAGEO; Manufacturer 1: YAGEO; Manufacturer Part Number 1: *; Designator: *; Quantity: *; Distributor: LCSC; LCSC Part Number: *; Package: SMD, 0805
footprint RES_THIN_FILM_0805_YAGEO
pins: 1, 2

## Resistor Thin Film 1206
designator R?  (value not drawn)
YAGEO; Manufacturer 1: YAGEO; Manufacturer Part Number 1: *; Designator: *; Quantity: *; Distributor: LCSC; LCSC Part Number: *; Package: SMD, 1206
footprint RES_THIN_FILM_1206_YAGEO
pins: 1, 2

## Sensor MPU-6050
designator U?, comment MPU-6050
Accelerometer Gyroscope I2C QFN-24-EP(4x4) Accelerometers ROHS; Manufacturer 1: TDK InvenSense; Designator: U?; Manufacturer Part Number 1: MPU-6050; Quantity: *; ComponentLink1Description: Datasheet; ComponentLink1URL: https://www.lcsc.com/datasheet/C24112.pdf; ComponentLink2Description: Product Link; ComponentLink2URL: https://www.lcsc.com/product-detail/C24112.html; Distributor: LCSC; LCSC Part Number: C24112; Package: QFN-24-EP(4x4)
footprint MPU-6050
pins: 1 CLKIN (in), 2 NC, 3 NC, 4 NC, 5 NC, 6 AUX_DA (in), 7 AUX_CL (in), 8 VLOGIC, 9 AD0 (io), 10 REGOUT, 11 FSYNC (in), 12 INT (out), 13 VDD, 14 NC, 15 NC, 16 NC, 17 NC, 18 GND, 19 RESV, 20 CPOUT, 21 RESV, 22 RESV, 23 SCL (out), 24 SDA (io), 25 GND

## Switch SMD SPST
designator SW?, comment TS-1088-AR02016
Without Bracket 4mm 12V 3mm Round Button SPST 50mA SMD,4x3mm Tactile Switches ROHS; Manufacturer 1: XUNPU; Designator: SW?; Manufacturer Part Number 1: TS-1088-AR02016; Quantity: *; ComponentLink1Description: Datasheet; ComponentLink1URL: https://item.szlcsc.com/datasheet/TS-1088-AR02016/763484.html?lcsc_vid=T1EMVlBfE1BXVVADFQQNUlMFT1RXUAZeFlhfBlAAQVExVlNQR1lZUlJWR1BfVTsOAxUeFF5JWBEcCEoDFhIXAgAHWQIBCks%3D; ComponentLink2Description: Product Link; ComponentLink2URL: https://www.lcsc.com/product-detail/C720477.html; Distributor: LCSC; LCSC Part Number: C720477; Package: SMD,4x3mm
footprint SW_SMD_SPST
pins: 1, 2

## Switch Tactile Switch
designator SW?
Tactile Switch SPST 160gf 1.5mm 5.1mm x 5.1mm Surface Mount; Manufacturer 1: XKB Connection; Manufacturer Part Number 1: TS-1187A-B-A-B; Designator: SW?; Quantity: *; ComponentLink1Description: Datasheet; ComponentLink1URL: https://www.lcsc.com/datasheet/C318884.pdf; ComponentLink2Description: Product Link; ComponentLink2URL: https://www.lcsc.com/product-detail/C318884.html; Distributor: LCSC; LCSC Part Number: C318884; Package: SMD-4P,5.1x5.1mm
footprint SW_TACTILE
pins: A, B, C, D